# Altium footprint library PcbLib1.PcbLib: 43 footprints (part 3 of 3)
Each footprint in its own frame and in the unit in brackets; x right, y up, seen from the top. Pads: shape width x height; smd on the part's side, far side on the other; paste and mask are expansions set on the pad; w line width, h text height; cw(c..) or ccw(c..) is an arc to the next point about the centre after c.
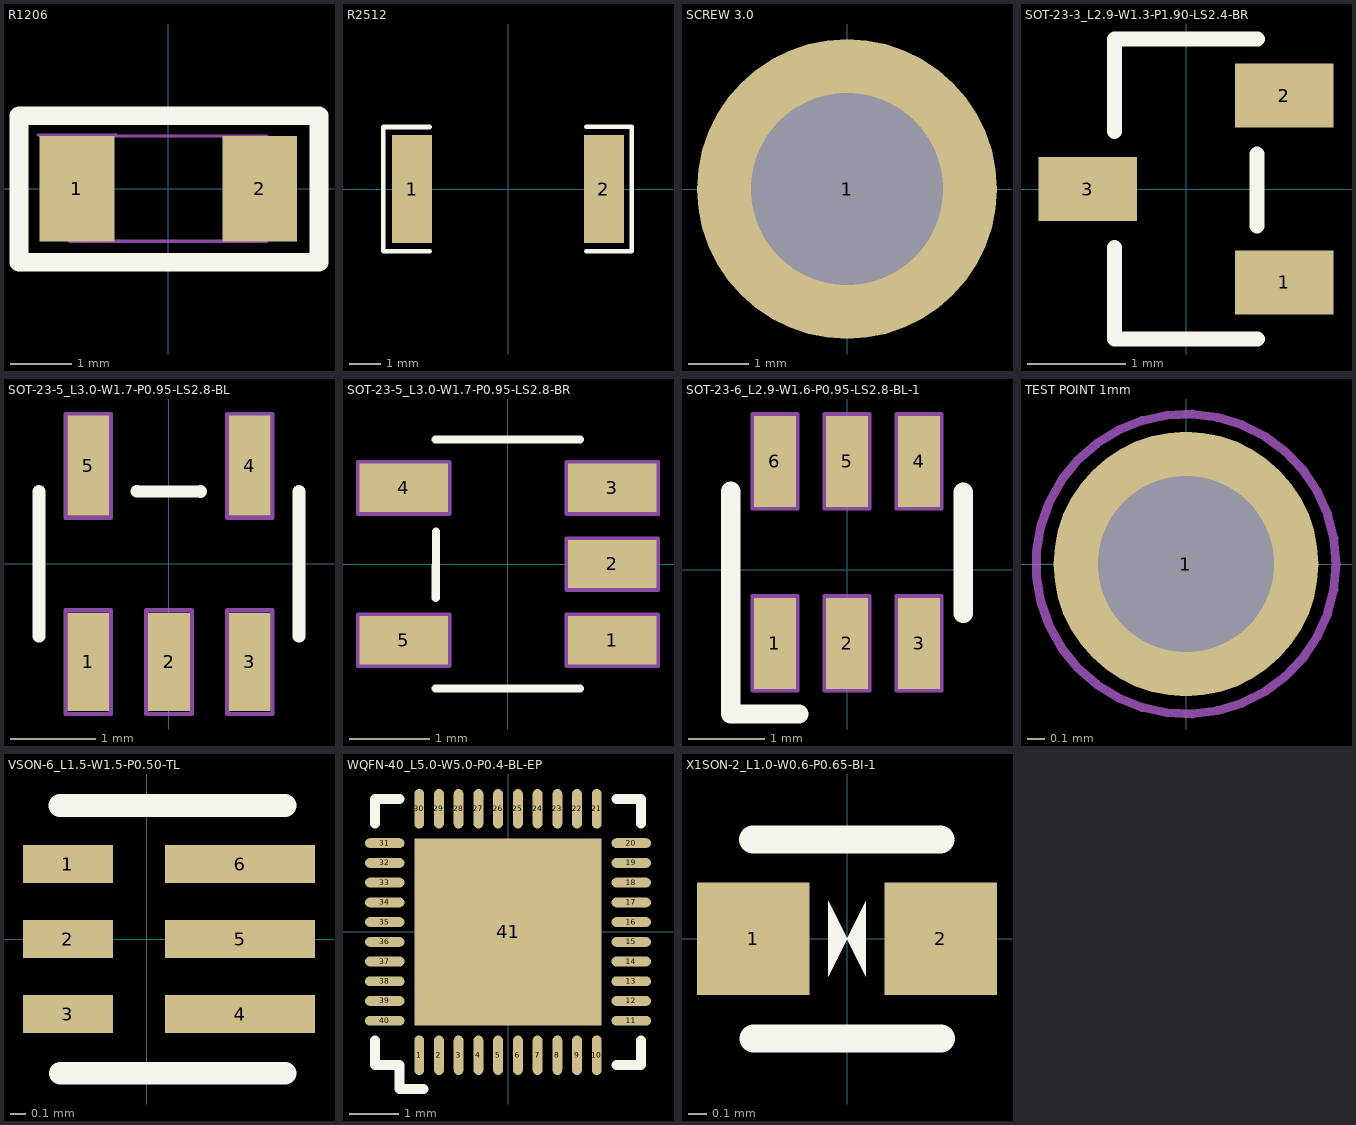
[diagram p2: the footprints below, top view; thin cyan lines are the x and y axes]

## R1206 [mm] "package 1206"
height 0.65
pads (2):
  rect 1.208x1.701 smd paste-100 mask+0.051: 1(-1.479,0) 2(1.479,0)
Top Overlay:
  lines w0.3: 0.84,-1.19 0.84,-1.19 ; 0.84,-1.19 2.439,-1.19 2.439,1.18 0.85,1.18 0.85,1.181 -1.053,1.181 -2.417,1.181 -2.417,-1.19 -1.062,-1.19 0.84,-1.19
Top Paste:
  region: 0.875,-0.75 0.875,-0.389 0.975,-0.289 1.186,-0.289 1.286,-0.189 1.286,0.189 1.186,0.289 0.975,0.289 0.875,0.389 0.875,0.75 0.975,0.85 1.983,0.85 2.083,0.75 2.083,-0.75 1.983,-0.85 0.975,-0.85
  region: -0.875,-0.75 -0.875,-0.389 -0.975,-0.289 -1.186,-0.289 -1.286,-0.189 -1.286,0.189 -1.186,0.289 -0.975,0.289 -0.875,0.389 -0.875,0.75 -0.975,0.85 -1.983,0.85 -2.083,0.75 -2.083,-0.75 -1.983,-0.85 -0.975,-0.85
Mechanical 2:
  lines w0.05: -2.11,0.87 -0.849,0.88 ; -2.085,0.858 -0.878,0.873 ; -1.6,-0.85 -1.6,0.85 1.6,0.85 1.6,-0.85 -1.6,-0.85
3D body "RC1206JR-0713RL.STEP": height 0.65, standoff 0, extent -1.55,-0.8 1.55,0.8

## R2512 [mm] "R2512"
height 0.025
pads (2):
  rect 1.283x3.456 smd paste-100 mask+0.051: 1(-3.066,0) 2(3.066,0)
Top Overlay:
  lines w0.152: -2.501,-1.986 -3.989,-1.986 -3.989,1.983 -2.501,1.983 ; 2.501,-1.986 3.956,-1.986 3.956,1.988 2.501,1.988
Top Paste:
  region: 2.425,-1.628 2.425,-0.688 2.525,-0.588 2.761,-0.588 2.861,-0.488 2.861,0.488 2.761,0.588 2.525,0.588 2.425,0.688 2.425,1.628 2.525,1.728 3.608,1.728 3.708,1.628 3.708,-1.628 3.608,-1.728 2.525,-1.728
  region: -2.425,-1.628 -2.425,-0.688 -2.525,-0.588 -2.761,-0.588 -2.861,-0.488 -2.861,0.488 -2.761,0.588 -2.525,0.588 -2.425,0.688 -2.425,1.628 -2.525,1.728 -3.608,1.728 -3.708,1.628 -3.708,-1.628 -3.608,-1.728 -2.525,-1.728
3D body "User Library-R2512-1.step": height 0.55, standoff 0, extent -3.35,-1.6 3.35,1.6

## SCREW 3.0 [mm] "M3"
pads (1):
  round 5 hole 3.2 mask+0.1: 1(0,0)

## SOT-23-3_L2.9-W1.3-P1.90-LS2.4-BR [mm]
pads (3):
  rect 1x0.65 smd paste+0 mask+0.051: 1(1,-0.95) 2(1,0.95) 3(-1,0)
Top Overlay:
  lines w0.152: -0.726,-0.593 -0.726,-1.526 0.726,-1.526 ; -0.726,0.583 -0.726,1.526 0.726,1.526 ; 0.723,-0.378 0.723,0.356
3D body "A1SHB.step": height 1.3, standoff 0, extent -1.21,-1.495 1.095,1.503

## SOT-23-5_L3.0-W1.7-P0.95-LS2.8-BL [mm] "SOT 23-5"
pads (5):
  rect 0.49x1.157 smd paste+0 mask+0.051: 1(-0.95,-1.154) 2(0,-1.154) 3(0.95,-1.154)
  rect 0.49x1.175 smd paste+0 mask+0.051: 4(0.95,1.154) 5(-0.95,1.154)
Top Overlay:
  lines w0.152: -1.526,-0.851 -1.526,0.851 ; -0.378,0.853 0.37,0.847 ; 1.526,-0.851 1.526,0.851
Mechanical 2:
  lines w0.05: -1.217,-1.765 -0.684,-1.765 -0.684,-0.547 -1.217,-0.547 -1.217,-1.765 ; -1.217,0.542 -0.684,0.542 -0.684,1.761 -1.217,1.761 -1.217,0.542 ; -0.267,-1.765 0.266,-1.765 0.266,-0.547 -0.267,-0.547 -0.267,-1.765 ; 0.683,-1.765 1.216,-1.765 1.216,-0.547 0.683,-0.547 0.683,-1.765 ; 0.683,0.542 1.216,0.542 1.216,1.761 0.683,1.761 0.683,0.542
3D body "SOT23-5.step": height 1.22, standoff 0.02, extent -1.495,-1.469 1.505,1.366

## SOT-23-5_L3.0-W1.7-P0.95-LS2.8-BR [mm] "SOT 23-5"
pads (5):
  rect 1.1x0.6 smd paste+0 mask+0.051: 1(1.3,-0.95) 2(1.3,0) 3(1.3,0.95) 4(-1.3,0.95) 5(-1.3,-0.95)
Top Overlay:
  lines w0.1: -0.9,-1.55 0.9,-1.55 ; -0.9,-0.422 -0.898,0.406 ; -0.9,1.55 0.9,1.55
Mechanical 2:
  lines w0.05: -1.869,-1.274 -0.729,-1.274 -0.729,-0.629 -1.869,-0.629 -1.869,-1.274 ; -1.869,0.626 -0.729,0.626 -0.729,1.271 -1.869,1.271 -1.869,0.626 ; 0.731,-1.274 1.871,-1.274 1.871,-0.629 0.731,-0.629 0.731,-1.274 ; 0.731,-0.324 1.871,-0.324 1.871,0.321 0.731,0.321 0.731,-0.324 ; 0.731,0.626 1.871,0.626 1.871,1.271 0.731,1.271 0.731,0.626
3D body "SOT23-5.step": height 1.22, standoff 0.02, extent -1.418,-1.5 1.418,1.5

## SOT-23-6_L2.9-W1.6-P0.95-LS2.8-BL-1 [mm] "SOT-23-6"
pads (6):
  rect 0.55x1.2 smd paste+0 mask+0.051: 1(-0.95,-0.974) 2(0,-0.974) 3(0.95,-0.974) 4(0.95,1.426) 5(0,1.426) 6(-0.95,1.426)
Top Overlay:
  lines w0.254: -1.534,1.032 -1.534,-0.568 -1.534,-1.905 -0.635,-1.905 ; 1.533,-0.58 1.533,1.02
Mechanical 2:
  lines w0.05: -1.534,-0.568 -1.534,1.032 ; 1.533,-0.58 1.533,1.02 ; -1.247,-1.597 -0.654,-1.597 -0.654,-0.349 -1.247,-0.349 -1.247,-1.597 ; -1.247,0.803 -0.654,0.803 -0.654,2.051 -1.247,2.051 -1.247,0.803 ; -0.298,-1.597 0.295,-1.597 0.295,-0.349 -0.298,-0.349 -0.298,-1.597 ; -0.298,0.803 0.295,0.803 0.295,2.051 -0.298,2.051 -0.298,0.803 ; 0.652,-1.596 1.245,-1.596 1.245,-0.349 0.652,-0.349 0.652,-1.596 ; 0.652,0.803 1.245,0.803 1.245,2.051 0.652,2.051 0.652,0.803
3D body "IC-DP SOT23-6L--3DModel-STEP-510211.STEP": height 1.3, standoff 0, extent -1.465,-1.192 1.435,1.608

## TEST POINT 1mm [mm]
pads (1):
  round 1.5 hole 1 mask+0.1: 1(0,0)
Mechanical 2:
  circle w0.05: c0,0 r0.85

## VSON-6_L1.5-W1.5-P0.50-TL [mm]
pads (6):
  rect 0.6x0.25 smd paste+0 mask+0.05: 1(-0.525,0.5) 2(-0.525,0) 3(-0.525,-0.5)
  rect 1x0.25 smd paste+0 mask+0.05: 4(0.625,-0.5) 5(0.625,0) 6(0.625,0.5)
Top Overlay:
  lines w0.152: -0.576,0.89 0.924,0.89 ; -0.575,-0.895 0.925,-0.895
3D body "TPS62826DMQR.STEP": height 1, standoff 0, extent -0.623,-0.757 0.877,0.743

## WQFN-40_L5.0-W5.0-P0.4-BL-EP [mm]
pads (41):
  oval 0.2x0.8 smd paste+0 mask+0.05: 1(-1.801,-2.499) 2(-1.4,-2.499) 3(-1.001,-2.499) 4(-0.599,-2.499) 5(-0.201,-2.499) 6(0.201,-2.499) 7(0.599,-2.499) 8(1.001,-2.499) 9(1.4,-2.499) 10(1.801,-2.499) 21(1.801,2.499) 22(1.4,2.499) 23(1.001,2.499) 24(0.599,2.499) 25(0.201,2.499) 26(-0.201,2.499) 27(-0.599,2.499) 28(-1.001,2.499) 29(-1.4,2.499) 30(-1.801,2.499)
  oval 0.8x0.2 smd paste+0 mask+0.05: 11(2.499,-1.801) 12(2.499,-1.4) 13(2.499,-1.001) 14(2.499,-0.599) 15(2.499,-0.201) 16(2.499,0.201) 17(2.499,0.599) 18(2.499,1.001) 19(2.499,1.4) 20(2.499,1.801) 31(-2.499,1.801) 32(-2.499,1.4) 33(-2.499,1.001) 34(-2.499,0.599) 35(-2.499,0.201) 36(-2.499,-0.201) 37(-2.499,-0.599) 38(-2.499,-1.001) 39(-2.499,-1.4) 40(-2.499,-1.801)
  rect 3.8x3.8 smd paste+0 mask+0.05: 41(0,0)
Top Overlay:
  lines w0.2: -2.7,-2.2 -2.7,-2.7 -2.2,-2.7 -2.2,-3.185 -1.711,-3.185 ; -2.7,2.2 -2.7,2.7 -2.2,2.7 ; 2.2,-2.7 2.7,-2.7 2.7,-2.2 ; 2.2,2.7 2.7,2.7 2.7,2.2
Top Paste:
  drawing of 41 lines, arcs and shapes, not listed
3D body "RTL8211F-CG--3DModel-STEP-56544.STEP": height 0.9, standoff 0, extent -2.46,-2.5 2.54,2.5

## X1SON-2_L1.0-W0.6-P0.65-BI-1 [mm]
pads (2):
  rect 0.6x0.6 smd paste+0 mask+0.051: 1(-0.5,0) 2(0.5,0)
Top Overlay:
  region: -0.1,0.2 -0.1,-0.2 0,0
  region: 0.101,-0.198 0.101,0.202 0.001,0.002
  lines w0.15: -0.5,0.531 0.5,0.531 ; -0.498,-0.532 0.502,-0.532
Mechanical 2:
  lines w0.05: -0.5,-0.5 0.5,-0.5 ; -0.5,0.5 0.5,0.5
Mechanical 15:
  region: -0.381,0.254 -0.381,-0.254 -0.254,-0.254 -0.254,0.254
  region: -0.1,0.2 -0.1,-0.2 0,0
  region: 0.1,-0.2 0.1,0.2 0,0
3D body "SOD882BD_black.step": height 0.47, standoff 0, extent -0.519,-0.299 0.501,0.301